# Altium integrated library 1-2834011-4.IntLib: 1 symbol
Pins are listed as number, name and electrical type; pins without a type are passive.

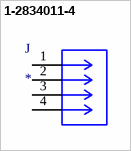
[diagram p0: symbol 1-2834011-4]

## 1-2834011-4
designator J
4 Position 3.5mm Pitch 14-20 AWG Top Entry Modular Screwless Eurostyle Connector; MP: 1-2834011-4; MF: TE Connectivity; Package: None; SnapEDA_Link: https://www.snapeda.com/parts/1-2834011-4/TE%20Connectivity%20AMP%20Connectors/view-part/2471182/?ref=snap; DigiKey-Purchase-URL: https://snapeda.com/shop?store=DigiKey&id=2471182; Price: None; Value: *; Availability: Unavailable
footprint CONN_1-2834011-4
pins: 1, 2, 3, 4